# Altium schematic symbol library jlcpcb_2025_04_ferrites_extended_0805.schlib: 546 symbols (part 6 of 10)
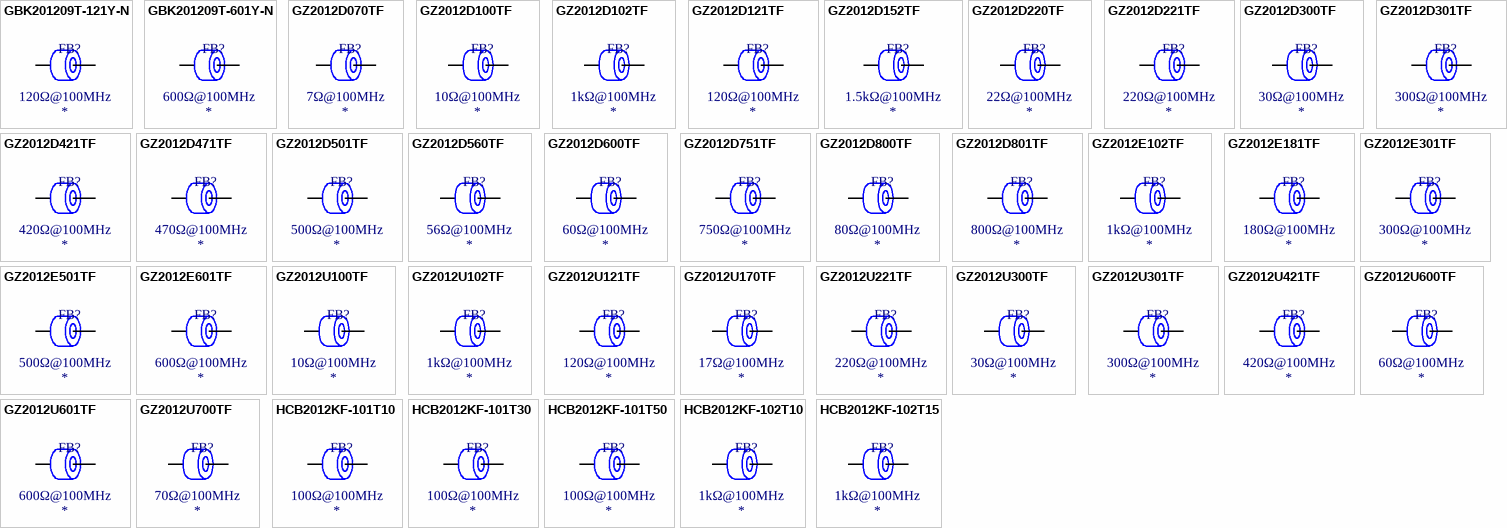
[diagram p18: symbols GBK201209T-121Y-N to HCB2012KF-102T15]

## HCB2012KF-102T10
designator FB?  Impedance @ Frequency: 1kΩ@100MHz
Ferrite, 1kΩ@100MHz, ±25%, 200mΩ, 1A, SMD 0805; Manufacturer: TAI-TECH; Manufacturer Part Number: HCB2012KF-102T10; Package Size: 0805; JLCPCB Basic Part: No; JLCPCB Part Number: C356985; Supplier 1: LCSC; Category: Ferrite Beads; Supplier Part Number 1: C356985; Tolerance: ±25%; Rated Current: 1A; DC Resistance: 200mΩ; RoHS: Yes; ComponentLink1Description: Datasheet; ComponentLink1URL: https://wmsc.lcsc.com/wmsc/upload/file/pdf/v2/lcsc/2009171138_TAI-TECH-HCB2012KF-102T10_C356985.pdf; ComponentLink2Description: JLCPCB Part URL; ComponentLink2URL: https://jlcpcb.com/partdetail/C356985; ComponentLink3Description: LCSC Part URL; ComponentLink3URL: https://lcsc.com/product-detail/Ferrite-Beads_TAI-TECH-TAI-TECH-HCB2012KF-102T10_C356985.html
footprint FB-0805 (0805 (2012M) Ferrite)
pins: 1, 2

## HCB2012KF-102T15
designator FB?  Impedance @ Frequency: 1kΩ@100MHz
Ferrite, 1kΩ@100MHz, ±25%, 1.5A, SMD 0805; Manufacturer: TAI-TECH; Manufacturer Part Number: HCB2012KF-102T15; Package Size: 0805; JLCPCB Basic Part: No; JLCPCB Part Number: C304322; Supplier 1: LCSC; Category: Ferrite Beads; Supplier Part Number 1: C304322; Tolerance: ±25%; Rated Current: 1.5A; RoHS: Yes; ComponentLink1Description: Datasheet; ComponentLink1URL: https://wmsc.lcsc.com/wmsc/upload/file/pdf/v2/lcsc/2009171411_TAI-TECH-HCB2012KF-102T15_C304322.pdf; ComponentLink2Description: JLCPCB Part URL; ComponentLink2URL: https://jlcpcb.com/partdetail/C304322; ComponentLink3Description: LCSC Part URL; ComponentLink3URL: https://lcsc.com/product-detail/Ferrite-Beads_TAI-TECH-TAI-TECH-HCB2012KF-102T15_C304322.html
pins: 1, 2

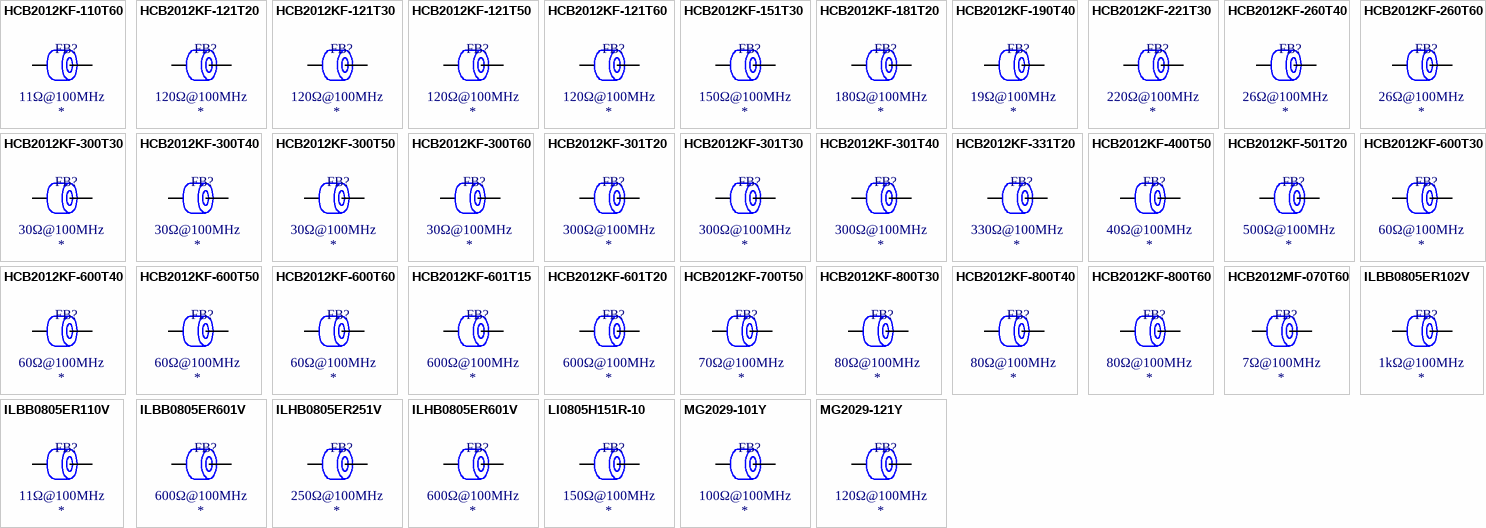
[diagram p7: symbols HCB2012KF-110T60 to MG2029-121Y]

## HCB2012KF-110T60
designator FB?  Impedance @ Frequency: 11Ω@100MHz
Ferrite, 11Ω@100MHz, ±25%, 10mΩ, 6A, SMD 0805; Manufacturer: TAI-TECH; Manufacturer Part Number: HCB2012KF-110T60; Package Size: 0805; JLCPCB Basic Part: No; JLCPCB Part Number: C369518; Supplier 1: LCSC; Category: Ferrite Beads; Supplier Part Number 1: C369518; Tolerance: ±25%; Rated Current: 6A; DC Resistance: 10mΩ; RoHS: Yes; ComponentLink1Description: Datasheet; ComponentLink1URL: https://wmsc.lcsc.com/wmsc/upload/file/pdf/v2/lcsc/2009171441_TAI-TECH-HCB2012KF-110T60_C369518.pdf; ComponentLink2Description: JLCPCB Part URL; ComponentLink2URL: https://jlcpcb.com/partdetail/C369518; ComponentLink3Description: LCSC Part URL; ComponentLink3URL: https://lcsc.com/product-detail/Ferrite-Beads_TAI-TECH-TAI-TECH-HCB2012KF-110T60_C369518.html
footprint FB-0805 (0805 (2012M) Ferrite)
pins: 1, 2

## HCB2012KF-121T20
designator FB?  Impedance @ Frequency: 120Ω@100MHz
Ferrite, 120Ω@100MHz, ±25%, 100mΩ, 2A, SMD 0805; Manufacturer: TAI-TECH; Manufacturer Part Number: HCB2012KF-121T20; Package Size: 0805; JLCPCB Basic Part: No; JLCPCB Part Number: C356986; Supplier 1: LCSC; Category: Ferrite Beads; Supplier Part Number 1: C356986; Tolerance: ±25%; Rated Current: 2A; DC Resistance: 100mΩ; RoHS: Yes; ComponentLink1Description: Datasheet; ComponentLink1URL: https://wmsc.lcsc.com/wmsc/upload/file/pdf/v2/lcsc/2009171138_TAI-TECH-HCB2012KF-121T20_C356986.pdf; ComponentLink2Description: JLCPCB Part URL; ComponentLink2URL: https://jlcpcb.com/partdetail/C356986; ComponentLink3Description: LCSC Part URL; ComponentLink3URL: https://lcsc.com/product-detail/Ferrite-Beads_TAI-TECH-TAI-TECH-HCB2012KF-121T20_C356986.html
footprint FB-0805 (0805 (2012M) Ferrite)
pins: 1, 2

## HCB2012KF-121T30
designator FB?  Impedance @ Frequency: 120Ω@100MHz
Ferrite, 120Ω@100MHz, ±25%, 40mΩ, 3A, SMD 0805; Manufacturer: TAI-TECH; Manufacturer Part Number: HCB2012KF-121T30; Package Size: 0805; JLCPCB Basic Part: No; JLCPCB Part Number: C356987; Supplier 1: LCSC; Category: Ferrite Beads; Supplier Part Number 1: C356987; Tolerance: ±25%; Rated Current: 3A; DC Resistance: 40mΩ; RoHS: Yes; ComponentLink1Description: Datasheet; ComponentLink1URL: https://wmsc.lcsc.com/wmsc/upload/file/pdf/v2/lcsc/2009171138_TAI-TECH-HCB2012KF-121T30_C356987.pdf; ComponentLink2Description: JLCPCB Part URL; ComponentLink2URL: https://jlcpcb.com/partdetail/C356987; ComponentLink3Description: LCSC Part URL; ComponentLink3URL: https://lcsc.com/product-detail/Ferrite-Beads_TAI-TECH-TAI-TECH-HCB2012KF-121T30_C356987.html
footprint FB-0805 (0805 (2012M) Ferrite)
pins: 1, 2

## HCB2012KF-121T50
designator FB?  Impedance @ Frequency: 120Ω@100MHz
Ferrite, 120Ω@100MHz, ±25%, 20mΩ, 5A, SMD 0805; Manufacturer: TAI-TECH; Manufacturer Part Number: HCB2012KF-121T50; Package Size: 0805; JLCPCB Basic Part: No; JLCPCB Part Number: C304323; Supplier 1: LCSC; Category: Ferrite Beads; Supplier Part Number 1: C304323; Tolerance: ±25%; Rated Current: 5A; DC Resistance: 20mΩ; RoHS: Yes; ComponentLink1Description: Datasheet; ComponentLink1URL: https://wmsc.lcsc.com/wmsc/upload/file/pdf/v2/lcsc/2009171411_TAI-TECH-HCB2012KF-121T50_C304323.pdf; ComponentLink2Description: JLCPCB Part URL; ComponentLink2URL: https://jlcpcb.com/partdetail/C304323; ComponentLink3Description: LCSC Part URL; ComponentLink3URL: https://lcsc.com/product-detail/Ferrite-Beads_TAI-TECH-TAI-TECH-HCB2012KF-121T50_C304323.html
footprint FB-0805 (0805 (2012M) Ferrite)
pins: 1, 2

## HCB2012KF-121T60
designator FB?  Impedance @ Frequency: 120Ω@100MHz
Ferrite, 120Ω@100MHz, ±25%, 20mΩ, 6A, SMD 0805; Manufacturer: TAI-TECH; Manufacturer Part Number: HCB2012KF-121T60; Package Size: 0805; JLCPCB Basic Part: No; JLCPCB Part Number: C369519; Supplier 1: LCSC; Category: Ferrite Beads; Supplier Part Number 1: C369519; Tolerance: ±25%; Rated Current: 6A; DC Resistance: 20mΩ; RoHS: Yes; ComponentLink1Description: Datasheet; ComponentLink1URL: https://wmsc.lcsc.com/wmsc/upload/file/pdf/v2/lcsc/2009171441_TAI-TECH-HCB2012KF-121T60_C369519.pdf; ComponentLink2Description: JLCPCB Part URL; ComponentLink2URL: https://jlcpcb.com/partdetail/C369519; ComponentLink3Description: LCSC Part URL; ComponentLink3URL: https://lcsc.com/product-detail/Ferrite-Beads_TAI-TECH-TAI-TECH-HCB2012KF-121T60_C369519.html
footprint FB-0805 (0805 (2012M) Ferrite)
pins: 1, 2

## HCB2012KF-151T30
designator FB?  Impedance @ Frequency: 150Ω@100MHz
Ferrite, 150Ω@100MHz, ±25%, 40mΩ, 3A, SMD 0805; Manufacturer: TAI-TECH; Manufacturer Part Number: HCB2012KF-151T30; Package Size: 0805; JLCPCB Basic Part: No; JLCPCB Part Number: C356990; Supplier 1: LCSC; Category: Ferrite Beads; Supplier Part Number 1: C356990; Tolerance: ±25%; Rated Current: 3A; DC Resistance: 40mΩ; RoHS: Yes; ComponentLink1Description: Datasheet; ComponentLink1URL: https://wmsc.lcsc.com/wmsc/upload/file/pdf/v2/lcsc/2009171138_TAI-TECH-HCB2012KF-151T30_C356990.pdf; ComponentLink2Description: JLCPCB Part URL; ComponentLink2URL: https://jlcpcb.com/partdetail/C356990; ComponentLink3Description: LCSC Part URL; ComponentLink3URL: https://lcsc.com/product-detail/Ferrite-Beads_TAI-TECH-TAI-TECH-HCB2012KF-151T30_C356990.html
footprint FB-0805 (0805 (2012M) Ferrite)
pins: 1, 2

## HCB2012KF-181T20
designator FB?  Impedance @ Frequency: 180Ω@100MHz
Ferrite, 180Ω@100MHz, ±25%, 100mΩ, 2A, SMD 0805; Manufacturer: TAI-TECH; Manufacturer Part Number: HCB2012KF-181T20; Package Size: 0805; JLCPCB Basic Part: No; JLCPCB Part Number: C356992; Supplier 1: LCSC; Category: Ferrite Beads; Supplier Part Number 1: C356992; Tolerance: ±25%; Rated Current: 2A; DC Resistance: 100mΩ; RoHS: Yes; ComponentLink1Description: Datasheet; ComponentLink1URL: https://wmsc.lcsc.com/wmsc/upload/file/pdf/v2/lcsc/2009171138_TAI-TECH-HCB2012KF-181T20_C356992.pdf; ComponentLink2Description: JLCPCB Part URL; ComponentLink2URL: https://jlcpcb.com/partdetail/C356992; ComponentLink3Description: LCSC Part URL; ComponentLink3URL: https://lcsc.com/product-detail/Ferrite-Beads_TAI-TECH-TAI-TECH-HCB2012KF-181T20_C356992.html
footprint FB-0805 (0805 (2012M) Ferrite)
pins: 1, 2

## HCB2012KF-190T40
designator FB?  Impedance @ Frequency: 19Ω@100MHz
Ferrite, 19Ω@100MHz, ±25%, 30mΩ, 4A, SMD 0805; Manufacturer: TAI-TECH; Manufacturer Part Number: HCB2012KF-190T40; Package Size: 0805; JLCPCB Basic Part: No; JLCPCB Part Number: C369520; Supplier 1: LCSC; Category: Ferrite Beads; Supplier Part Number 1: C369520; Tolerance: ±25%; Rated Current: 4A; DC Resistance: 30mΩ; RoHS: Yes; ComponentLink1Description: Datasheet; ComponentLink1URL: https://wmsc.lcsc.com/wmsc/upload/file/pdf/v2/lcsc/2009171441_TAI-TECH-HCB2012KF-190T40_C369520.pdf; ComponentLink2Description: JLCPCB Part URL; ComponentLink2URL: https://jlcpcb.com/partdetail/C369520; ComponentLink3Description: LCSC Part URL; ComponentLink3URL: https://lcsc.com/product-detail/Ferrite-Beads_TAI-TECH-TAI-TECH-HCB2012KF-190T40_C369520.html
footprint FB-0805 (0805 (2012M) Ferrite)
pins: 1, 2

## HCB2012KF-221T30
designator FB?  Impedance @ Frequency: 220Ω@100MHz
Ferrite, 220Ω@100MHz, ±25%, 3A, SMD 0805; Manufacturer: TAI-TECH; Manufacturer Part Number: HCB2012KF-221T30; Package Size: 0805; JLCPCB Basic Part: No; JLCPCB Part Number: C304325; Supplier 1: LCSC; Category: Ferrite Beads; Supplier Part Number 1: C304325; Tolerance: ±25%; Rated Current: 3A; RoHS: Yes; ComponentLink1Description: Datasheet; ComponentLink1URL: https://wmsc.lcsc.com/wmsc/upload/file/pdf/v2/lcsc/2009171411_TAI-TECH-HCB2012KF-221T30_C304325.pdf; ComponentLink2Description: JLCPCB Part URL; ComponentLink2URL: https://jlcpcb.com/partdetail/C304325; ComponentLink3Description: LCSC Part URL; ComponentLink3URL: https://lcsc.com/product-detail/Ferrite-Beads_TAI-TECH-TAI-TECH-HCB2012KF-221T30_C304325.html
pins: 1, 2

## HCB2012KF-260T40
designator FB?  Impedance @ Frequency: 26Ω@100MHz
Ferrite, 26Ω@100MHz, ±25%, 30mΩ, 4A, SMD 0805; Manufacturer: TAI-TECH; Manufacturer Part Number: HCB2012KF-260T40; Package Size: 0805; JLCPCB Basic Part: No; JLCPCB Part Number: C356996; Supplier 1: LCSC; Category: Ferrite Beads; Supplier Part Number 1: C356996; Tolerance: ±25%; Rated Current: 4A; DC Resistance: 30mΩ; RoHS: Yes; ComponentLink1Description: Datasheet; ComponentLink1URL: https://wmsc.lcsc.com/wmsc/upload/file/pdf/v2/lcsc/2009171138_TAI-TECH-HCB2012KF-260T40_C356996.pdf; ComponentLink2Description: JLCPCB Part URL; ComponentLink2URL: https://jlcpcb.com/partdetail/C356996; ComponentLink3Description: LCSC Part URL; ComponentLink3URL: https://lcsc.com/product-detail/Ferrite-Beads_TAI-TECH-TAI-TECH-HCB2012KF-260T40_C356996.html
footprint FB-0805 (0805 (2012M) Ferrite)
pins: 1, 2

## HCB2012KF-260T60
designator FB?  Impedance @ Frequency: 26Ω@100MHz
Ferrite, 26Ω@100MHz, ±25%, 10mΩ, 6A, SMD 0805; Manufacturer: TAI-TECH; Manufacturer Part Number: HCB2012KF-260T60; Package Size: 0805; JLCPCB Basic Part: No; JLCPCB Part Number: C356997; Supplier 1: LCSC; Category: Ferrite Beads; Supplier Part Number 1: C356997; Tolerance: ±25%; Rated Current: 6A; DC Resistance: 10mΩ; RoHS: Yes; ComponentLink1Description: Datasheet; ComponentLink1URL: https://wmsc.lcsc.com/wmsc/upload/file/pdf/v2/lcsc/2009171138_TAI-TECH-HCB2012KF-260T60_C356997.pdf; ComponentLink2Description: JLCPCB Part URL; ComponentLink2URL: https://jlcpcb.com/partdetail/C356997; ComponentLink3Description: LCSC Part URL; ComponentLink3URL: https://lcsc.com/product-detail/Ferrite-Beads_TAI-TECH-TAI-TECH-HCB2012KF-260T60_C356997.html
footprint FB-0805 (0805 (2012M) Ferrite)
pins: 1, 2

## HCB2012KF-300T30
designator FB?  Impedance @ Frequency: 30Ω@100MHz
Ferrite, 30Ω@100MHz, ±25%, 40mΩ, 3A, SMD 0805; Manufacturer: TAI-TECH; Manufacturer Part Number: HCB2012KF-300T30; Package Size: 0805; JLCPCB Basic Part: No; JLCPCB Part Number: C356998; Supplier 1: LCSC; Category: Ferrite Beads; Supplier Part Number 1: C356998; Tolerance: ±25%; Rated Current: 3A; DC Resistance: 40mΩ; RoHS: Yes; ComponentLink1Description: Datasheet; ComponentLink1URL: https://wmsc.lcsc.com/wmsc/upload/file/pdf/v2/lcsc/2009171138_TAI-TECH-HCB2012KF-300T30_C356998.pdf; ComponentLink2Description: JLCPCB Part URL; ComponentLink2URL: https://jlcpcb.com/partdetail/C356998; ComponentLink3Description: LCSC Part URL; ComponentLink3URL: https://lcsc.com/product-detail/Ferrite-Beads_TAI-TECH-TAI-TECH-HCB2012KF-300T30_C356998.html
footprint FB-0805 (0805 (2012M) Ferrite)
pins: 1, 2

## HCB2012KF-300T40
designator FB?  Impedance @ Frequency: 30Ω@100MHz
Ferrite, 30Ω@100MHz, ±25%, 30mΩ, 4A, SMD 0805; Manufacturer: TAI-TECH; Manufacturer Part Number: HCB2012KF-300T40; Package Size: 0805; JLCPCB Basic Part: No; JLCPCB Part Number: C369521; Supplier 1: LCSC; Category: Ferrite Beads; Supplier Part Number 1: C369521; Tolerance: ±25%; Rated Current: 4A; DC Resistance: 30mΩ; RoHS: Yes; ComponentLink1Description: Datasheet; ComponentLink1URL: https://wmsc.lcsc.com/wmsc/upload/file/pdf/v2/lcsc/2009171441_TAI-TECH-HCB2012KF-300T40_C369521.pdf; ComponentLink2Description: JLCPCB Part URL; ComponentLink2URL: https://jlcpcb.com/partdetail/C369521; ComponentLink3Description: LCSC Part URL; ComponentLink3URL: https://lcsc.com/product-detail/Ferrite-Beads_TAI-TECH-TAI-TECH-HCB2012KF-300T40_C369521.html
footprint FB-0805 (0805 (2012M) Ferrite)
pins: 1, 2

## HCB2012KF-300T50
designator FB?  Impedance @ Frequency: 30Ω@100MHz
Ferrite, 30Ω@100MHz, ±25%, 20mΩ, 5A, SMD 0805; Manufacturer: TAI-TECH; Manufacturer Part Number: HCB2012KF-300T50; Package Size: 0805; JLCPCB Basic Part: No; JLCPCB Part Number: C356999; Supplier 1: LCSC; Category: Ferrite Beads; Supplier Part Number 1: C356999; Tolerance: ±25%; Rated Current: 5A; DC Resistance: 20mΩ; RoHS: Yes; ComponentLink1Description: Datasheet; ComponentLink1URL: https://wmsc.lcsc.com/wmsc/upload/file/pdf/v2/lcsc/2009171138_TAI-TECH-HCB2012KF-300T50_C356999.pdf; ComponentLink2Description: JLCPCB Part URL; ComponentLink2URL: https://jlcpcb.com/partdetail/C356999; ComponentLink3Description: LCSC Part URL; ComponentLink3URL: https://lcsc.com/product-detail/Ferrite-Beads_TAI-TECH-TAI-TECH-HCB2012KF-300T50_C356999.html
footprint FB-0805 (0805 (2012M) Ferrite)
pins: 1, 2

## HCB2012KF-300T60
designator FB?  Impedance @ Frequency: 30Ω@100MHz
Ferrite, 30Ω@100MHz, ±25%, 6A, SMD 0805; Manufacturer: TAI-TECH; Manufacturer Part Number: HCB2012KF-300T60; Package Size: 0805; JLCPCB Basic Part: No; JLCPCB Part Number: C304326; Supplier 1: LCSC; Category: Ferrite Beads; Supplier Part Number 1: C304326; Tolerance: ±25%; Rated Current: 6A; RoHS: Yes; ComponentLink1Description: Datasheet; ComponentLink1URL: https://wmsc.lcsc.com/wmsc/upload/file/pdf/v2/lcsc/2009171411_TAI-TECH-HCB2012KF-300T60_C304326.pdf; ComponentLink2Description: JLCPCB Part URL; ComponentLink2URL: https://jlcpcb.com/partdetail/C304326; ComponentLink3Description: LCSC Part URL; ComponentLink3URL: https://lcsc.com/product-detail/Ferrite-Beads_TAI-TECH-TAI-TECH-HCB2012KF-300T60_C304326.html
pins: 1, 2

## HCB2012KF-301T20
designator FB?  Impedance @ Frequency: 300Ω@100MHz
Ferrite, 300Ω@100MHz, ±25%, 200mΩ, 2A, SMD 0805; Manufacturer: TAI-TECH; Manufacturer Part Number: HCB2012KF-301T20; Package Size: 0805; JLCPCB Basic Part: No; JLCPCB Part Number: C357000; Supplier 1: LCSC; Category: Ferrite Beads; Supplier Part Number 1: C357000; Tolerance: ±25%; Rated Current: 2A; DC Resistance: 200mΩ; RoHS: Yes; ComponentLink1Description: Datasheet; ComponentLink1URL: https://wmsc.lcsc.com/wmsc/upload/file/pdf/v2/lcsc/2009171138_TAI-TECH-HCB2012KF-301T20_C357000.pdf; ComponentLink2Description: JLCPCB Part URL; ComponentLink2URL: https://jlcpcb.com/partdetail/C357000; ComponentLink3Description: LCSC Part URL; ComponentLink3URL: https://lcsc.com/product-detail/Ferrite-Beads_TAI-TECH-TAI-TECH-HCB2012KF-301T20_C357000.html
footprint FB-0805 (0805 (2012M) Ferrite)
pins: 1, 2

## HCB2012KF-301T30
designator FB?  Impedance @ Frequency: 300Ω@100MHz
Ferrite, 300Ω@100MHz, ±25%, 40mΩ, 3A, SMD 0805; Manufacturer: TAI-TECH; Manufacturer Part Number: HCB2012KF-301T30; Package Size: 0805; JLCPCB Basic Part: No; JLCPCB Part Number: C357001; Supplier 1: LCSC; Category: Ferrite Beads; Supplier Part Number 1: C357001; Tolerance: ±25%; Rated Current: 3A; DC Resistance: 40mΩ; RoHS: Yes; ComponentLink1Description: Datasheet; ComponentLink1URL: https://wmsc.lcsc.com/wmsc/upload/file/pdf/v2/lcsc/2009171138_TAI-TECH-HCB2012KF-301T30_C357001.pdf; ComponentLink2Description: JLCPCB Part URL; ComponentLink2URL: https://jlcpcb.com/partdetail/C357001; ComponentLink3Description: LCSC Part URL; ComponentLink3URL: https://lcsc.com/product-detail/Ferrite-Beads_TAI-TECH-TAI-TECH-HCB2012KF-301T30_C357001.html
footprint FB-0805 (0805 (2012M) Ferrite)
pins: 1, 2

## HCB2012KF-301T40
designator FB?  Impedance @ Frequency: 300Ω@100MHz
Ferrite, 300Ω@100MHz, ±25%, 40mΩ, 4A, SMD 0805; Manufacturer: TAI-TECH; Manufacturer Part Number: HCB2012KF-301T40; Package Size: 0805; JLCPCB Basic Part: No; JLCPCB Part Number: C357002; Supplier 1: LCSC; Category: Ferrite Beads; Supplier Part Number 1: C357002; Tolerance: ±25%; Rated Current: 4A; DC Resistance: 40mΩ; RoHS: Yes; ComponentLink1Description: Datasheet; ComponentLink1URL: https://wmsc.lcsc.com/wmsc/upload/file/pdf/v2/lcsc/2009171139_TAI-TECH-HCB2012KF-301T40_C357002.pdf; ComponentLink2Description: JLCPCB Part URL; ComponentLink2URL: https://jlcpcb.com/partdetail/C357002; ComponentLink3Description: LCSC Part URL; ComponentLink3URL: https://lcsc.com/product-detail/Ferrite-Beads_TAI-TECH-TAI-TECH-HCB2012KF-301T40_C357002.html
footprint FB-0805 (0805 (2012M) Ferrite)
pins: 1, 2

## HCB2012KF-331T20
designator FB?  Impedance @ Frequency: 330Ω@100MHz
Ferrite, 330Ω@100MHz, ±25%, 100mΩ, 2A, SMD 0805; Manufacturer: TAI-TECH; Manufacturer Part Number: HCB2012KF-331T20; Package Size: 0805; JLCPCB Basic Part: No; JLCPCB Part Number: C2880071; Supplier 1: LCSC; Category: Ferrite Beads; Supplier Part Number 1: C2880071; Tolerance: ±25%; Rated Current: 2A; DC Resistance: 100mΩ; RoHS: Yes; ComponentLink1Description: Datasheet; ComponentLink1URL: https://wmsc.lcsc.com/wmsc/upload/file/pdf/v2/lcsc/2108241130_TAI-TECH-HCB2012KF-331T20_C2880071.pdf; ComponentLink2Description: JLCPCB Part URL; ComponentLink2URL: https://jlcpcb.com/partdetail/C2880071; ComponentLink3Description: LCSC Part URL; ComponentLink3URL: https://lcsc.com/product-detail/Ferrite-Beads_TAI-TECH-TAI-TECH-HCB2012KF-331T20_C2880071.html
footprint FB-0805 (0805 (2012M) Ferrite)
pins: 1, 2

## HCB2012KF-400T50
designator FB?  Impedance @ Frequency: 40Ω@100MHz
Ferrite, 40Ω@100MHz, ±25%, 20mΩ, 5A, SMD 0805; Manufacturer: TAI-TECH; Manufacturer Part Number: HCB2012KF-400T50; Package Size: 0805; JLCPCB Basic Part: No; JLCPCB Part Number: C369522; Supplier 1: LCSC; Category: Ferrite Beads; Supplier Part Number 1: C369522; Tolerance: ±25%; Rated Current: 5A; DC Resistance: 20mΩ; RoHS: Yes; ComponentLink1Description: Datasheet; ComponentLink1URL: https://wmsc.lcsc.com/wmsc/upload/file/pdf/v2/lcsc/2009171441_TAI-TECH-HCB2012KF-400T50_C369522.pdf; ComponentLink2Description: JLCPCB Part URL; ComponentLink2URL: https://jlcpcb.com/partdetail/C369522; ComponentLink3Description: LCSC Part URL; ComponentLink3URL: https://lcsc.com/product-detail/Ferrite-Beads_TAI-TECH-TAI-TECH-HCB2012KF-400T50_C369522.html
footprint FB-0805 (0805 (2012M) Ferrite)
pins: 1, 2

## HCB2012KF-501T20
designator FB?  Impedance @ Frequency: 500Ω@100MHz
Ferrite, 500Ω@100MHz, ±25%, 100mΩ, 2A, SMD 0805; Manufacturer: TAI-TECH; Manufacturer Part Number: HCB2012KF-501T20; Package Size: 0805; JLCPCB Basic Part: No; JLCPCB Part Number: C357005; Supplier 1: LCSC; Category: Ferrite Beads; Supplier Part Number 1: C357005; Tolerance: ±25%; Rated Current: 2A; DC Resistance: 100mΩ; RoHS: Yes; ComponentLink1Description: Datasheet; ComponentLink1URL: https://wmsc.lcsc.com/wmsc/upload/file/pdf/v2/lcsc/2009171204_TAI-TECH-HCB2012KF-501T20_C357005.pdf; ComponentLink2Description: JLCPCB Part URL; ComponentLink2URL: https://jlcpcb.com/partdetail/C357005; ComponentLink3Description: LCSC Part URL; ComponentLink3URL: https://lcsc.com/product-detail/Ferrite-Beads_TAI-TECH-TAI-TECH-HCB2012KF-501T20_C357005.html
footprint FB-0805 (0805 (2012M) Ferrite)
pins: 1, 2

## HCB2012KF-600T30
designator FB?  Impedance @ Frequency: 60Ω@100MHz
Ferrite, 60Ω@100MHz, ±25%, 3A, SMD 0805; Manufacturer: TAI-TECH; Manufacturer Part Number: HCB2012KF-600T30; Package Size: 0805; JLCPCB Basic Part: No; JLCPCB Part Number: C304328; Supplier 1: LCSC; Category: Ferrite Beads; Supplier Part Number 1: C304328; Tolerance: ±25%; Rated Current: 3A; RoHS: Yes; ComponentLink1Description: Datasheet; ComponentLink1URL: https://wmsc.lcsc.com/wmsc/upload/file/pdf/v2/lcsc/2009171411_TAI-TECH-HCB2012KF-600T30_C304328.pdf; ComponentLink2Description: JLCPCB Part URL; ComponentLink2URL: https://jlcpcb.com/partdetail/C304328; ComponentLink3Description: LCSC Part URL; ComponentLink3URL: https://lcsc.com/product-detail/Ferrite-Beads_TAI-TECH-TAI-TECH-HCB2012KF-600T30_C304328.html
pins: 1, 2

## HCB2012KF-600T40
designator FB?  Impedance @ Frequency: 60Ω@100MHz
Ferrite, 60Ω@100MHz, ±25%, 30mΩ, 4A, SMD 0805; Manufacturer: TAI-TECH; Manufacturer Part Number: HCB2012KF-600T40; Package Size: 0805; JLCPCB Basic Part: No; JLCPCB Part Number: C369524; Supplier 1: LCSC; Category: Ferrite Beads; Supplier Part Number 1: C369524; Tolerance: ±25%; Rated Current: 4A; DC Resistance: 30mΩ; RoHS: Yes; ComponentLink1Description: Datasheet; ComponentLink1URL: https://wmsc.lcsc.com/wmsc/upload/file/pdf/v2/lcsc/2009171441_TAI-TECH-HCB2012KF-600T40_C369524.pdf; ComponentLink2Description: JLCPCB Part URL; ComponentLink2URL: https://jlcpcb.com/partdetail/C369524; ComponentLink3Description: LCSC Part URL; ComponentLink3URL: https://lcsc.com/product-detail/Ferrite-Beads_TAI-TECH-TAI-TECH-HCB2012KF-600T40_C369524.html
footprint FB-0805 (0805 (2012M) Ferrite)
pins: 1, 2

## HCB2012KF-600T50
designator FB?  Impedance @ Frequency: 60Ω@100MHz
Ferrite, 60Ω@100MHz, ±25%, 20mΩ, 5A, SMD 0805; Manufacturer: TAI-TECH; Manufacturer Part Number: HCB2012KF-600T50; Package Size: 0805; JLCPCB Basic Part: No; JLCPCB Part Number: C357006; Supplier 1: LCSC; Category: Ferrite Beads; Supplier Part Number 1: C357006; Tolerance: ±25%; Rated Current: 5A; DC Resistance: 20mΩ; RoHS: Yes; ComponentLink1Description: Datasheet; ComponentLink1URL: https://wmsc.lcsc.com/wmsc/upload/file/pdf/v2/lcsc/2009171204_TAI-TECH-HCB2012KF-600T50_C357006.pdf; ComponentLink2Description: JLCPCB Part URL; ComponentLink2URL: https://jlcpcb.com/partdetail/C357006; ComponentLink3Description: LCSC Part URL; ComponentLink3URL: https://lcsc.com/product-detail/Ferrite-Beads_TAI-TECH-TAI-TECH-HCB2012KF-600T50_C357006.html
footprint FB-0805 (0805 (2012M) Ferrite)
pins: 1, 2

## HCB2012KF-600T60
designator FB?  Impedance @ Frequency: 60Ω@100MHz
Ferrite, 60Ω@100MHz, ±25%, 20mΩ, 6A, SMD 0805; Manufacturer: TAI-TECH; Manufacturer Part Number: HCB2012KF-600T60; Package Size: 0805; JLCPCB Basic Part: No; JLCPCB Part Number: C369525; Supplier 1: LCSC; Category: Ferrite Beads; Supplier Part Number 1: C369525; Tolerance: ±25%; Rated Current: 6A; DC Resistance: 20mΩ; RoHS: Yes; ComponentLink1Description: Datasheet; ComponentLink1URL: https://wmsc.lcsc.com/wmsc/upload/file/pdf/v2/lcsc/2009171441_TAI-TECH-HCB2012KF-600T60_C369525.pdf; ComponentLink2Description: JLCPCB Part URL; ComponentLink2URL: https://jlcpcb.com/partdetail/C369525; ComponentLink3Description: LCSC Part URL; ComponentLink3URL: https://lcsc.com/product-detail/Ferrite-Beads_TAI-TECH-TAI-TECH-HCB2012KF-600T60_C369525.html
footprint FB-0805 (0805 (2012M) Ferrite)
pins: 1, 2

## HCB2012KF-601T15
designator FB?  Impedance @ Frequency: 600Ω@100MHz
Ferrite, 600Ω@100MHz, ±25%, 1.5A, SMD 0805; Manufacturer: TAI-TECH; Manufacturer Part Number: HCB2012KF-601T15; Package Size: 0805; JLCPCB Basic Part: No; JLCPCB Part Number: C127291; Supplier 1: LCSC; Category: Ferrite Beads; Supplier Part Number 1: C127291; Tolerance: ±25%; Rated Current: 1.5A; RoHS: Yes; ComponentLink1Description: Datasheet; ComponentLink1URL: https://wmsc.lcsc.com/wmsc/upload/file/pdf/v2/lcsc/2009171134_TAI-TECH-HCB2012KF-601T15_C127291.pdf; ComponentLink2Description: JLCPCB Part URL; ComponentLink2URL: https://jlcpcb.com/partdetail/C127291; ComponentLink3Description: LCSC Part URL; ComponentLink3URL: https://lcsc.com/product-detail/Ferrite-Beads_TAI-TECH-TAI-TECH-HCB2012KF-601T15_C127291.html
pins: 1, 2

## HCB2012KF-601T20
designator FB?  Impedance @ Frequency: 600Ω@100MHz
Ferrite, 600Ω@100MHz, ±25%, 2A, SMD 0805; Manufacturer: TAI-TECH; Manufacturer Part Number: HCB2012KF-601T20; Package Size: 0805; JLCPCB Basic Part: No; JLCPCB Part Number: C304329; Supplier 1: LCSC; Category: Ferrite Beads; Supplier Part Number 1: C304329; Tolerance: ±25%; Rated Current: 2A; RoHS: Yes; ComponentLink1Description: Datasheet; ComponentLink1URL: https://wmsc.lcsc.com/wmsc/upload/file/pdf/v2/lcsc/2009171411_TAI-TECH-HCB2012KF-601T20_C304329.pdf; ComponentLink2Description: JLCPCB Part URL; ComponentLink2URL: https://jlcpcb.com/partdetail/C304329; ComponentLink3Description: LCSC Part URL; ComponentLink3URL: https://lcsc.com/product-detail/Ferrite-Beads_TAI-TECH-TAI-TECH-HCB2012KF-601T20_C304329.html
pins: 1, 2

## HCB2012KF-700T50
designator FB?  Impedance @ Frequency: 70Ω@100MHz
Ferrite, 70Ω@100MHz, ±25%, 20mΩ, 5A, SMD 0805; Manufacturer: TAI-TECH; Manufacturer Part Number: HCB2012KF-700T50; Package Size: 0805; JLCPCB Basic Part: No; JLCPCB Part Number: C357009; Supplier 1: LCSC; Category: Ferrite Beads; Supplier Part Number 1: C357009; Tolerance: ±25%; Rated Current: 5A; DC Resistance: 20mΩ; RoHS: Yes; ComponentLink1Description: Datasheet; ComponentLink1URL: https://wmsc.lcsc.com/wmsc/upload/file/pdf/v2/lcsc/2009171204_TAI-TECH-HCB2012KF-700T50_C357009.pdf; ComponentLink2Description: JLCPCB Part URL; ComponentLink2URL: https://jlcpcb.com/partdetail/C357009; ComponentLink3Description: LCSC Part URL; ComponentLink3URL: https://lcsc.com/product-detail/Ferrite-Beads_TAI-TECH-TAI-TECH-HCB2012KF-700T50_C357009.html
footprint FB-0805 (0805 (2012M) Ferrite)
pins: 1, 2

## HCB2012KF-800T30
designator FB?  Impedance @ Frequency: 80Ω@100MHz
Ferrite, 80Ω@100MHz, ±25%, 40mΩ, 3A, SMD 0805; Manufacturer: TAI-TECH; Manufacturer Part Number: HCB2012KF-800T30; Package Size: 0805; JLCPCB Basic Part: No; JLCPCB Part Number: C369526; Supplier 1: LCSC; Category: Ferrite Beads; Supplier Part Number 1: C369526; Tolerance: ±25%; Rated Current: 3A; DC Resistance: 40mΩ; RoHS: Yes; ComponentLink1Description: Datasheet; ComponentLink1URL: https://wmsc.lcsc.com/wmsc/upload/file/pdf/v2/lcsc/2009171441_TAI-TECH-HCB2012KF-800T30_C369526.pdf; ComponentLink2Description: JLCPCB Part URL; ComponentLink2URL: https://jlcpcb.com/partdetail/C369526; ComponentLink3Description: LCSC Part URL; ComponentLink3URL: https://lcsc.com/product-detail/Ferrite-Beads_TAI-TECH-TAI-TECH-HCB2012KF-800T30_C369526.html
footprint FB-0805 (0805 (2012M) Ferrite)
pins: 1, 2

## HCB2012KF-800T40
designator FB?  Impedance @ Frequency: 80Ω@100MHz
Ferrite, 80Ω@100MHz, ±25%, 30mΩ, 4A, SMD 0805; Manufacturer: TAI-TECH; Manufacturer Part Number: HCB2012KF-800T40; Package Size: 0805; JLCPCB Basic Part: No; JLCPCB Part Number: C2880069; Supplier 1: LCSC; Category: Ferrite Beads; Supplier Part Number 1: C2880069; Tolerance: ±25%; Rated Current: 4A; DC Resistance: 30mΩ; RoHS: Yes; ComponentLink1Description: Datasheet; ComponentLink1URL: https://wmsc.lcsc.com/wmsc/upload/file/pdf/v2/lcsc/2108241130_TAI-TECH-HCB2012KF-800T40_C2880069.pdf; ComponentLink2Description: JLCPCB Part URL; ComponentLink2URL: https://jlcpcb.com/partdetail/C2880069; ComponentLink3Description: LCSC Part URL; ComponentLink3URL: https://lcsc.com/product-detail/Ferrite-Beads_TAI-TECH-TAI-TECH-HCB2012KF-800T40_C2880069.html
footprint FB-0805 (0805 (2012M) Ferrite)
pins: 1, 2

## HCB2012KF-800T60
designator FB?  Impedance @ Frequency: 80Ω@100MHz
Ferrite, 80Ω@100MHz, ±25%, 6A, SMD 0805; Manufacturer: TAI-TECH; Manufacturer Part Number: HCB2012KF-800T60; Package Size: 0805; JLCPCB Basic Part: No; JLCPCB Part Number: C304330; Supplier 1: LCSC; Category: Ferrite Beads; Supplier Part Number 1: C304330; Tolerance: ±25%; Rated Current: 6A; RoHS: Yes; ComponentLink1Description: Datasheet; ComponentLink1URL: https://wmsc.lcsc.com/wmsc/upload/file/pdf/v2/lcsc/2009171411_TAI-TECH-HCB2012KF-800T60_C304330.pdf; ComponentLink2Description: JLCPCB Part URL; ComponentLink2URL: https://jlcpcb.com/partdetail/C304330; ComponentLink3Description: LCSC Part URL; ComponentLink3URL: https://lcsc.com/product-detail/Ferrite-Beads_TAI-TECH-TAI-TECH-HCB2012KF-800T60_C304330.html
pins: 1, 2

## HCB2012MF-070T60
designator FB?  Impedance @ Frequency: 7Ω@100MHz
Ferrite, 7Ω@100MHz, ±25%, 10mΩ, 6A, SMD 0805; Manufacturer: TAI-TECH; Manufacturer Part Number: HCB2012MF-070T60; Package Size: 0805; JLCPCB Basic Part: No; JLCPCB Part Number: C369527; Supplier 1: LCSC; Category: Ferrite Beads; Supplier Part Number 1: C369527; Tolerance: ±25%; Rated Current: 6A; DC Resistance: 10mΩ; RoHS: Yes; ComponentLink1Description: Datasheet; ComponentLink1URL: https://wmsc.lcsc.com/wmsc/upload/file/pdf/v2/lcsc/2009171441_TAI-TECH-HCB2012MF-070T60_C369527.pdf; ComponentLink2Description: JLCPCB Part URL; ComponentLink2URL: https://jlcpcb.com/partdetail/C369527; ComponentLink3Description: LCSC Part URL; ComponentLink3URL: https://lcsc.com/product-detail/Ferrite-Beads_TAI-TECH-TAI-TECH-HCB2012MF-070T60_C369527.html
footprint FB-0805 (0805 (2012M) Ferrite)
pins: 1, 2

## ILBB0805ER102V
designator FB?  Impedance @ Frequency: 1kΩ@100MHz
Ferrite, 1kΩ@100MHz, ±25%, 350mΩ, 100mA, SMD 0805; Manufacturer: Vishay Intertech; Manufacturer Part Number: ILBB0805ER102V; Package Size: 0805; JLCPCB Basic Part: No; JLCPCB Part Number: C499529; Supplier 1: LCSC; Category: Ferrite Beads; Supplier Part Number 1: C499529; Tolerance: ±25%; Rated Current: 100mA; DC Resistance: 350mΩ; RoHS: Yes; ComponentLink1Description: Datasheet; ComponentLink1URL: https://wmsc.lcsc.com/wmsc/upload/file/pdf/v2/lcsc/2003271812_Vishay-Intertech-ILBB0805ER102V_C499529.pdf; ComponentLink2Description: JLCPCB Part URL; ComponentLink2URL: https://jlcpcb.com/partdetail/C499529; ComponentLink3Description: LCSC Part URL; ComponentLink3URL: https://lcsc.com/product-detail/Ferrite-Beads_Vishay-Intertech-Vishay-Intertech-ILBB0805ER102V_C499529.html
footprint FB-0805 (0805 (2012M) Ferrite)
pins: 1, 2

## ILBB0805ER110V
designator FB?  Impedance @ Frequency: 11Ω@100MHz
Ferrite, 11Ω@100MHz, ±25%, 60mΩ, 600mA, SMD 0805; Manufacturer: Vishay Intertech; Manufacturer Part Number: ILBB0805ER110V; Package Size: 0805; JLCPCB Basic Part: No; JLCPCB Part Number: C335605; Supplier 1: LCSC; Category: Ferrite Beads; Supplier Part Number 1: C335605; Tolerance: ±25%; Rated Current: 600mA; DC Resistance: 60mΩ; RoHS: Yes; ComponentLink1Description: Datasheet; ComponentLink1URL: https://wmsc.lcsc.com/wmsc/upload/file/pdf/v2/lcsc/1912111437_Vishay-Intertech-ILBB0805ER110V_C335605.pdf; ComponentLink2Description: JLCPCB Part URL; ComponentLink2URL: https://jlcpcb.com/partdetail/C335605; ComponentLink3Description: LCSC Part URL; ComponentLink3URL: https://lcsc.com/product-detail/Ferrite-Beads_Vishay-Intertech-Vishay-Intertech-ILBB0805ER110V_C335605.html
footprint FB-0805 (0805 (2012M) Ferrite)
pins: 1, 2

## ILBB0805ER601V
designator FB?  Impedance @ Frequency: 600Ω@100MHz
Ferrite, 600Ω@100MHz, 300mΩ, SMD 0805; Manufacturer: Vishay Intertech; Manufacturer Part Number: ILBB0805ER601V; Package Size: 0805; JLCPCB Basic Part: No; JLCPCB Part Number: C845115; Supplier 1: LCSC; Category: Ferrite Beads; Supplier Part Number 1: C845115; DC Resistance: 300mΩ; RoHS: Yes; ComponentLink1Description: Datasheet; ComponentLink1URL: https://wmsc.lcsc.com/wmsc/upload/file/pdf/v2/lcsc/2312131902_Vishay-Intertech-ILBB0805ER601V_C845115.pdf; ComponentLink2Description: JLCPCB Part URL; ComponentLink2URL: https://jlcpcb.com/partdetail/C845115; ComponentLink3Description: LCSC Part URL; ComponentLink3URL: https://lcsc.com/product-detail/Ferrite-Beads_Vishay-Intertech-Vishay-Intertech-ILBB0805ER601V_C845115.html
pins: 1, 2

## ILHB0805ER251V
designator FB?  Impedance @ Frequency: 250Ω@100MHz
Ferrite, 250Ω@100MHz, ±25%, 40mΩ, 3A, SMD 0805; Manufacturer: Vishay Intertech; Manufacturer Part Number: ILHB0805ER251V; Package Size: 0805; JLCPCB Basic Part: No; JLCPCB Part Number: C2661656; Supplier 1: LCSC; Category: Ferrite Beads; Supplier Part Number 1: C2661656; Tolerance: ±25%; Rated Current: 3A; DC Resistance: 40mΩ; RoHS: Yes; ComponentLink1Description: Datasheet; ComponentLink1URL: https://datasheet.lcsc.com/lcsc/2304140030_Vishay-Intertech-ILHB0805ER251V_C2661656.pdf; ComponentLink2Description: JLCPCB Part URL; ComponentLink2URL: https://jlcpcb.com/partdetail/C2661656; ComponentLink3Description: LCSC Part URL; ComponentLink3URL: https://lcsc.com/product-detail/Ferrite-Beads_Vishay-Intertech-Vishay-Intertech-ILHB0805ER251V_C2661656.html
footprint FB-0805 (0805 (2012M) Ferrite)
pins: 1, 2

## ILHB0805ER601V
designator FB?  Impedance @ Frequency: 600Ω@100MHz
Ferrite, 600Ω@100MHz, 100mΩ, SMD 0805; Manufacturer: Vishay Intertech; Manufacturer Part Number: ILHB0805ER601V; Package Size: 0805; JLCPCB Basic Part: No; JLCPCB Part Number: C845118; Supplier 1: LCSC; Category: Ferrite Beads; Supplier Part Number 1: C845118; DC Resistance: 100mΩ; RoHS: Yes; ComponentLink1Description: Datasheet; ComponentLink1URL: https://wmsc.lcsc.com/wmsc/upload/file/pdf/v2/lcsc/2206291002_Vishay-Intertech-ILHB0805ER601V_C845118.pdf; ComponentLink2Description: JLCPCB Part URL; ComponentLink2URL: https://jlcpcb.com/partdetail/C845118; ComponentLink3Description: LCSC Part URL; ComponentLink3URL: https://lcsc.com/product-detail/Ferrite-Beads_Vishay-Intertech-Vishay-Intertech-ILHB0805ER601V_C845118.html
pins: 1, 2

## LI0805H151R-10
designator FB?  Impedance @ Frequency: 150Ω@100MHz
Ferrite, 150Ω@100MHz, 150mΩ, SMD 0805; Manufacturer: Laird-Signal(Laird Tech); Manufacturer Part Number: LI0805H151R-10; Package Size: 0805; JLCPCB Basic Part: No; JLCPCB Part Number: C2441359; Supplier 1: LCSC; Category: Ferrite Beads; Supplier Part Number 1: C2441359; DC Resistance: 150mΩ; RoHS: Yes; ComponentLink1Description: Datasheet; ComponentLink1URL: https://wmsc.lcsc.com/wmsc/upload/file/pdf/v2/lcsc/2401161201_Laird-LI0805H151R-10_C2441359.pdf; ComponentLink2Description: JLCPCB Part URL; ComponentLink2URL: https://jlcpcb.com/partdetail/C2441359; ComponentLink3Description: LCSC Part URL; ComponentLink3URL: https://lcsc.com/product-detail/Ferrite-Beads_Laird-SignalLaird-Tech-Laird-SignalLaird-Tech-LI0805H151R-10_C2441359.html
pins: 1, 2

## MG2029-101Y
designator FB?  Impedance @ Frequency: 100Ω@100MHz
Ferrite, 100Ω@100MHz, ±25%, 0.2Ω, 400mA, SMD 0805; Manufacturer: BOURNS; Manufacturer Part Number: MG2029-101Y; Package Size: 0805; JLCPCB Basic Part: No; JLCPCB Part Number: C139462; Supplier 1: LCSC; Category: Ferrite Beads; Supplier Part Number 1: C139462; Tolerance: ±25%; Rated Current: 400mA; DC Resistance: 0.2Ω; RoHS: Yes; ComponentLink1Description: Datasheet; ComponentLink1URL: https://wmsc.lcsc.com/wmsc/upload/file/pdf/v2/lcsc/2304140030_BOURNS-MG2029-101Y_C139462.pdf; ComponentLink2Description: JLCPCB Part URL; ComponentLink2URL: https://jlcpcb.com/partdetail/C139462; ComponentLink3Description: LCSC Part URL; ComponentLink3URL: https://lcsc.com/product-detail/Ferrite-Beads_BOURNS-BOURNS-MG2029-101Y_C139462.html
footprint FB-0805 (0805 (2012M) Ferrite)
pins: 1, 2

## MG2029-121Y
designator FB?  Impedance @ Frequency: 120Ω@100MHz
Ferrite, 120Ω@100MHz, ±25%, 0.25Ω, 300mA, SMD 0805; Manufacturer: BOURNS; Manufacturer Part Number: MG2029-121Y; Package Size: 0805; JLCPCB Basic Part: No; JLCPCB Part Number: C139463; Supplier 1: LCSC; Category: Ferrite Beads; Supplier Part Number 1: C139463; Tolerance: ±25%; Rated Current: 300mA; DC Resistance: 0.25Ω; RoHS: Yes; ComponentLink1Description: Datasheet; ComponentLink1URL: https://wmsc.lcsc.com/wmsc/upload/file/pdf/v2/lcsc/2304140030_BOURNS-MG2029-121Y_C139463.pdf; ComponentLink2Description: JLCPCB Part URL; ComponentLink2URL: https://jlcpcb.com/partdetail/C139463; ComponentLink3Description: LCSC Part URL; ComponentLink3URL: https://lcsc.com/product-detail/Ferrite-Beads_BOURNS-BOURNS-MG2029-121Y_C139463.html
footprint FB-0805 (0805 (2012M) Ferrite)
pins: 1, 2

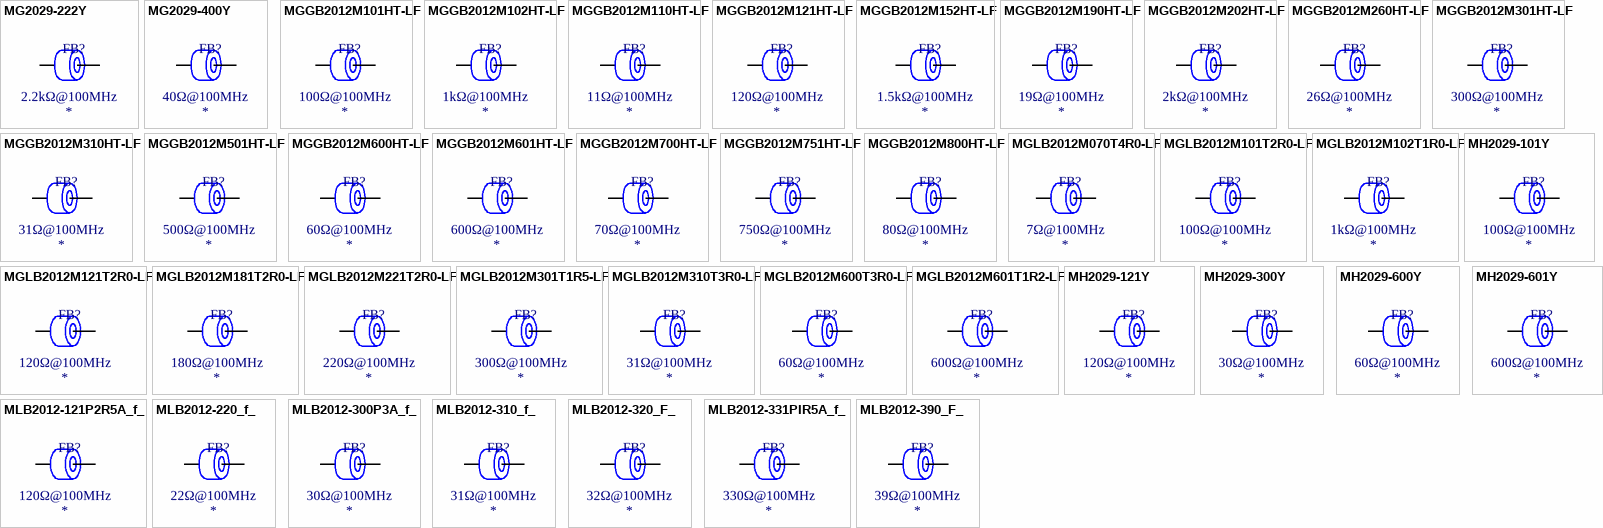
[diagram p8: symbols MG2029-222Y to MLB2012-390_F_]

## MG2029-222Y
designator FB?  Impedance @ Frequency: 2.2kΩ@100MHz
Ferrite, 2.2kΩ@100MHz, ±25%, SMD 0805; Manufacturer: BOURNS; Manufacturer Part Number: MG2029-222Y; Package Size: 0805; JLCPCB Basic Part: No; JLCPCB Part Number: C1880495; Supplier 1: LCSC; Category: Ferrite Beads; Supplier Part Number 1: C1880495; Tolerance: ±25%; RoHS: Yes; ComponentLink1Description: Datasheet; ComponentLink1URL: https://wmsc.lcsc.com/wmsc/upload/file/pdf/v2/lcsc/2304140030_BOURNS-MG2029-222Y_C1880495.pdf; ComponentLink2Description: JLCPCB Part URL; ComponentLink2URL: https://jlcpcb.com/partdetail/C1880495; ComponentLink3Description: LCSC Part URL; ComponentLink3URL: https://lcsc.com/product-detail/Ferrite-Beads_BOURNS-BOURNS-MG2029-222Y_C1880495.html
pins: 1, 2

## MG2029-400Y
designator FB?  Impedance @ Frequency: 40Ω@100MHz
Ferrite, 40Ω@100MHz, ±25%, 0.2Ω, 300mA, SMD 0805; Manufacturer: BOURNS; Manufacturer Part Number: MG2029-400Y; Package Size: 0805; JLCPCB Basic Part: No; JLCPCB Part Number: C139464; Supplier 1: LCSC; Category: Ferrite Beads; Supplier Part Number 1: C139464; Tolerance: ±25%; Rated Current: 300mA; DC Resistance: 0.2Ω; RoHS: Yes; ComponentLink1Description: Datasheet; ComponentLink1URL: https://wmsc.lcsc.com/wmsc/upload/file/pdf/v2/lcsc/2304140030_BOURNS-MG2029-400Y_C139464.pdf; ComponentLink2Description: JLCPCB Part URL; ComponentLink2URL: https://jlcpcb.com/partdetail/C139464; ComponentLink3Description: LCSC Part URL; ComponentLink3URL: https://lcsc.com/product-detail/Ferrite-Beads_BOURNS-BOURNS-MG2029-400Y_C139464.html
footprint FB-0805 (0805 (2012M) Ferrite)
pins: 1, 2

## MGGB2012M101HT-LF
designator FB?  Impedance @ Frequency: 100Ω@100MHz
Ferrite, 100Ω@100MHz, ±25%, 0.12Ω, 1000mA, SMD 0805; Manufacturer: microgate; Manufacturer Part Number: MGGB2012M101HT-LF; Package Size: 0805; JLCPCB Basic Part: No; JLCPCB Part Number: C281154; Supplier 1: LCSC; Category: Ferrite Beads; Supplier Part Number 1: C281154; Tolerance: ±25%; Rated Current: 1000mA; DC Resistance: 0.12Ω; RoHS: Yes; ComponentLink1Description: Datasheet; ComponentLink1URL: https://wmsc.lcsc.com/wmsc/upload/file/pdf/v2/lcsc/2304140030_microgate-MGGB2012M101HT-LF_C281154.pdf; ComponentLink2Description: JLCPCB Part URL; ComponentLink2URL: https://jlcpcb.com/partdetail/C281154; ComponentLink3Description: LCSC Part URL; ComponentLink3URL: https://lcsc.com/product-detail/Ferrite-Beads_microgate-microgate-MGGB2012M101HT-LF_C281154.html
footprint FB-0805 (0805 (2012M) Ferrite)
pins: 1, 2

## MGGB2012M102HT-LF
designator FB?  Impedance @ Frequency: 1kΩ@100MHz
Ferrite, 1kΩ@100MHz, ±25%, 0.45Ω, 300mA, SMD 0805; Manufacturer: microgate; Manufacturer Part Number: MGGB2012M102HT-LF; Package Size: 0805; JLCPCB Basic Part: No; JLCPCB Part Number: C281155; Supplier 1: LCSC; Category: Ferrite Beads; Supplier Part Number 1: C281155; Tolerance: ±25%; Rated Current: 300mA; DC Resistance: 0.45Ω; RoHS: Yes; ComponentLink1Description: Datasheet; ComponentLink1URL: https://wmsc.lcsc.com/wmsc/upload/file/pdf/v2/lcsc/2304140030_microgate-MGGB2012M102HT-LF_C281155.pdf; ComponentLink2Description: JLCPCB Part URL; ComponentLink2URL: https://jlcpcb.com/partdetail/C281155; ComponentLink3Description: LCSC Part URL; ComponentLink3URL: https://lcsc.com/product-detail/Ferrite-Beads_microgate-microgate-MGGB2012M102HT-LF_C281155.html
footprint FB-0805 (0805 (2012M) Ferrite)
pins: 1, 2

## MGGB2012M110HT-LF
designator FB?  Impedance @ Frequency: 11Ω@100MHz
Ferrite, 11Ω@100MHz, ±25%, 0.05Ω, 2000mA, SMD 0805; Manufacturer: microgate; Manufacturer Part Number: MGGB2012M110HT-LF; Package Size: 0805; JLCPCB Basic Part: No; JLCPCB Part Number: C281156; Supplier 1: LCSC; Category: Ferrite Beads; Supplier Part Number 1: C281156; Tolerance: ±25%; Rated Current: 2000mA; DC Resistance: 0.05Ω; RoHS: Yes; ComponentLink1Description: Datasheet; ComponentLink1URL: https://wmsc.lcsc.com/wmsc/upload/file/pdf/v2/lcsc/2304140030_microgate-MGGB2012M110HT-LF_C281156.pdf; ComponentLink2Description: JLCPCB Part URL; ComponentLink2URL: https://jlcpcb.com/partdetail/C281156; ComponentLink3Description: LCSC Part URL; ComponentLink3URL: https://lcsc.com/product-detail/Ferrite-Beads_microgate-microgate-MGGB2012M110HT-LF_C281156.html
footprint FB-0805 (0805 (2012M) Ferrite)
pins: 1, 2

## MGGB2012M121HT-LF
designator FB?  Impedance @ Frequency: 120Ω@100MHz
Ferrite, 120Ω@100MHz, ±25%, 0.15Ω, 800mA, SMD 0805; Manufacturer: microgate; Manufacturer Part Number: MGGB2012M121HT-LF; Package Size: 0805; JLCPCB Basic Part: No; JLCPCB Part Number: C281157; Supplier 1: LCSC; Category: Ferrite Beads; Supplier Part Number 1: C281157; Tolerance: ±25%; Rated Current: 800mA; DC Resistance: 0.15Ω; RoHS: Yes; ComponentLink1Description: Datasheet; ComponentLink1URL: https://wmsc.lcsc.com/wmsc/upload/file/pdf/v2/lcsc/2304140030_microgate-MGGB2012M121HT-LF_C281157.pdf; ComponentLink2Description: JLCPCB Part URL; ComponentLink2URL: https://jlcpcb.com/partdetail/C281157; ComponentLink3Description: LCSC Part URL; ComponentLink3URL: https://lcsc.com/product-detail/Ferrite-Beads_microgate-microgate-MGGB2012M121HT-LF_C281157.html
footprint FB-0805 (0805 (2012M) Ferrite)
pins: 1, 2

## MGGB2012M152HT-LF
designator FB?  Impedance @ Frequency: 1.5kΩ@100MHz
Ferrite, 1.5kΩ@100MHz, ±25%, 0.65Ω, 200mA, SMD 0805; Manufacturer: microgate; Manufacturer Part Number: MGGB2012M152HT-LF; Package Size: 0805; JLCPCB Basic Part: No; JLCPCB Part Number: C281160; Supplier 1: LCSC; Category: Ferrite Beads; Supplier Part Number 1: C281160; Tolerance: ±25%; Rated Current: 200mA; DC Resistance: 0.65Ω; RoHS: Yes; ComponentLink1Description: Datasheet; ComponentLink1URL: https://wmsc.lcsc.com/wmsc/upload/file/pdf/v2/lcsc/2304140030_microgate-MGGB2012M152HT-LF_C281160.pdf; ComponentLink2Description: JLCPCB Part URL; ComponentLink2URL: https://jlcpcb.com/partdetail/C281160; ComponentLink3Description: LCSC Part URL; ComponentLink3URL: https://lcsc.com/product-detail/Ferrite-Beads_microgate-microgate-MGGB2012M152HT-LF_C281160.html
footprint FB-0805 (0805 (2012M) Ferrite)
pins: 1, 2

## MGGB2012M190HT-LF
designator FB?  Impedance @ Frequency: 19Ω@100MHz
Ferrite, 19Ω@100MHz, ±25%, 0.05Ω, 2000mA, SMD 0805; Manufacturer: microgate; Manufacturer Part Number: MGGB2012M190HT-LF; Package Size: 0805; JLCPCB Basic Part: No; JLCPCB Part Number: C281161; Supplier 1: LCSC; Category: Ferrite Beads; Supplier Part Number 1: C281161; Tolerance: ±25%; Rated Current: 2000mA; DC Resistance: 0.05Ω; RoHS: Yes; ComponentLink1Description: Datasheet; ComponentLink1URL: https://wmsc.lcsc.com/wmsc/upload/file/pdf/v2/lcsc/2304140030_microgate-MGGB2012M190HT-LF_C281161.pdf; ComponentLink2Description: JLCPCB Part URL; ComponentLink2URL: https://jlcpcb.com/partdetail/C281161; ComponentLink3Description: LCSC Part URL; ComponentLink3URL: https://lcsc.com/product-detail/Ferrite-Beads_microgate-microgate-MGGB2012M190HT-LF_C281161.html
footprint FB-0805 (0805 (2012M) Ferrite)
pins: 1, 2

## MGGB2012M202HT-LF
designator FB?  Impedance @ Frequency: 2kΩ@100MHz
Ferrite, 2kΩ@100MHz, ±25%, 0.8Ω, 200mA, SMD 0805; Manufacturer: microgate; Manufacturer Part Number: MGGB2012M202HT-LF; Package Size: 0805; JLCPCB Basic Part: No; JLCPCB Part Number: C281162; Supplier 1: LCSC; Category: Ferrite Beads; Supplier Part Number 1: C281162; Tolerance: ±25%; Rated Current: 200mA; DC Resistance: 0.8Ω; RoHS: Yes; ComponentLink1Description: Datasheet; ComponentLink1URL: https://wmsc.lcsc.com/wmsc/upload/file/pdf/v2/lcsc/2304140030_microgate-MGGB2012M202HT-LF_C281162.pdf; ComponentLink2Description: JLCPCB Part URL; ComponentLink2URL: https://jlcpcb.com/partdetail/C281162; ComponentLink3Description: LCSC Part URL; ComponentLink3URL: https://lcsc.com/product-detail/Ferrite-Beads_microgate-microgate-MGGB2012M202HT-LF_C281162.html
footprint FB-0805 (0805 (2012M) Ferrite)
pins: 1, 2

## MGGB2012M260HT-LF
designator FB?  Impedance @ Frequency: 26Ω@100MHz
Ferrite, 26Ω@100MHz, ±25%, 0.05Ω, 1500mA, SMD 0805; Manufacturer: microgate; Manufacturer Part Number: MGGB2012M260HT-LF; Package Size: 0805; JLCPCB Basic Part: No; JLCPCB Part Number: C281164; Supplier 1: LCSC; Category: Ferrite Beads; Supplier Part Number 1: C281164; Tolerance: ±25%; Rated Current: 1500mA; DC Resistance: 0.05Ω; RoHS: Yes; ComponentLink1Description: Datasheet; ComponentLink1URL: https://wmsc.lcsc.com/wmsc/upload/file/pdf/v2/lcsc/2304140030_microgate-MGGB2012M260HT-LF_C281164.pdf; ComponentLink2Description: JLCPCB Part URL; ComponentLink2URL: https://jlcpcb.com/partdetail/C281164; ComponentLink3Description: LCSC Part URL; ComponentLink3URL: https://lcsc.com/product-detail/Ferrite-Beads_microgate-microgate-MGGB2012M260HT-LF_C281164.html
footprint FB-0805 (0805 (2012M) Ferrite)
pins: 1, 2

## MGGB2012M301HT-LF
designator FB?  Impedance @ Frequency: 300Ω@100MHz
Ferrite, 300Ω@100MHz, ±25%, 0.25Ω, 500mA, SMD 0805; Manufacturer: microgate; Manufacturer Part Number: MGGB2012M301HT-LF; Package Size: 0805; JLCPCB Basic Part: No; JLCPCB Part Number: C281165; Supplier 1: LCSC; Category: Ferrite Beads; Supplier Part Number 1: C281165; Tolerance: ±25%; Rated Current: 500mA; DC Resistance: 0.25Ω; RoHS: Yes; ComponentLink1Description: Datasheet; ComponentLink1URL: https://wmsc.lcsc.com/wmsc/upload/file/pdf/v2/lcsc/2304140030_microgate-MGGB2012M301HT-LF_C281165.pdf; ComponentLink2Description: JLCPCB Part URL; ComponentLink2URL: https://jlcpcb.com/partdetail/C281165; ComponentLink3Description: LCSC Part URL; ComponentLink3URL: https://lcsc.com/product-detail/Ferrite-Beads_microgate-microgate-MGGB2012M301HT-LF_C281165.html
footprint FB-0805 (0805 (2012M) Ferrite)
pins: 1, 2

## MGGB2012M310HT-LF
designator FB?  Impedance @ Frequency: 31Ω@100MHz
Ferrite, 31Ω@100MHz, ±25%, 0.05Ω, 1500mA, SMD 0805; Manufacturer: microgate; Manufacturer Part Number: MGGB2012M310HT-LF; Package Size: 0805; JLCPCB Basic Part: No; JLCPCB Part Number: C281166; Supplier 1: LCSC; Category: Ferrite Beads; Supplier Part Number 1: C281166; Tolerance: ±25%; Rated Current: 1500mA; DC Resistance: 0.05Ω; RoHS: Yes; ComponentLink1Description: Datasheet; ComponentLink1URL: https://wmsc.lcsc.com/wmsc/upload/file/pdf/v2/lcsc/2304140030_microgate-MGGB2012M310HT-LF_C281166.pdf; ComponentLink2Description: JLCPCB Part URL; ComponentLink2URL: https://jlcpcb.com/partdetail/C281166; ComponentLink3Description: LCSC Part URL; ComponentLink3URL: https://lcsc.com/product-detail/Ferrite-Beads_microgate-microgate-MGGB2012M310HT-LF_C281166.html
footprint FB-0805 (0805 (2012M) Ferrite)
pins: 1, 2

## MGGB2012M501HT-LF
designator FB?  Impedance @ Frequency: 500Ω@100MHz
Ferrite, 500Ω@100MHz, ±25%, 0.3Ω, 500mA, SMD 0805; Manufacturer: microgate; Manufacturer Part Number: MGGB2012M501HT-LF; Package Size: 0805; JLCPCB Basic Part: No; JLCPCB Part Number: C281168; Supplier 1: LCSC; Category: Ferrite Beads; Supplier Part Number 1: C281168; Tolerance: ±25%; Rated Current: 500mA; DC Resistance: 0.3Ω; RoHS: Yes; ComponentLink1Description: Datasheet; ComponentLink1URL: https://wmsc.lcsc.com/wmsc/upload/file/pdf/v2/lcsc/2304140030_microgate-MGGB2012M501HT-LF_C281168.pdf; ComponentLink2Description: JLCPCB Part URL; ComponentLink2URL: https://jlcpcb.com/partdetail/C281168; ComponentLink3Description: LCSC Part URL; ComponentLink3URL: https://lcsc.com/product-detail/Ferrite-Beads_microgate-microgate-MGGB2012M501HT-LF_C281168.html
footprint FB-0805 (0805 (2012M) Ferrite)
pins: 1, 2

## MGGB2012M600HT-LF
designator FB?  Impedance @ Frequency: 60Ω@100MHz
Ferrite, 60Ω@100MHz, ±25%, 0.05Ω, 1000mA, SMD 0805; Manufacturer: microgate; Manufacturer Part Number: MGGB2012M600HT-LF; Package Size: 0805; JLCPCB Basic Part: No; JLCPCB Part Number: C281169; Supplier 1: LCSC; Category: Ferrite Beads; Supplier Part Number 1: C281169; Tolerance: ±25%; Rated Current: 1000mA; DC Resistance: 0.05Ω; RoHS: Yes; ComponentLink1Description: Datasheet; ComponentLink1URL: https://wmsc.lcsc.com/wmsc/upload/file/pdf/v2/lcsc/2304140030_microgate-MGGB2012M600HT-LF_C281169.pdf; ComponentLink2Description: JLCPCB Part URL; ComponentLink2URL: https://jlcpcb.com/partdetail/C281169; ComponentLink3Description: LCSC Part URL; ComponentLink3URL: https://lcsc.com/product-detail/Ferrite-Beads_microgate-microgate-MGGB2012M600HT-LF_C281169.html
footprint FB-0805 (0805 (2012M) Ferrite)
pins: 1, 2

## MGGB2012M601HT-LF
designator FB?  Impedance @ Frequency: 600Ω@100MHz
Ferrite, 600Ω@100MHz, ±25%, 0.35Ω, 500mA, SMD 0805; Manufacturer: microgate; Manufacturer Part Number: MGGB2012M601HT-LF; Package Size: 0805; JLCPCB Basic Part: No; JLCPCB Part Number: C281170; Supplier 1: LCSC; Category: Ferrite Beads; Supplier Part Number 1: C281170; Tolerance: ±25%; Rated Current: 500mA; DC Resistance: 0.35Ω; RoHS: Yes; ComponentLink1Description: Datasheet; ComponentLink1URL: https://wmsc.lcsc.com/wmsc/upload/file/pdf/v2/lcsc/2304140030_microgate-MGGB2012M601HT-LF_C281170.pdf; ComponentLink2Description: JLCPCB Part URL; ComponentLink2URL: https://jlcpcb.com/partdetail/C281170; ComponentLink3Description: LCSC Part URL; ComponentLink3URL: https://lcsc.com/product-detail/Ferrite-Beads_microgate-microgate-MGGB2012M601HT-LF_C281170.html
footprint FB-0805 (0805 (2012M) Ferrite)
pins: 1, 2